# Altium footprint library b3f-4050.PcbLib: 1 footprints
Each footprint in its own frame and in the unit in brackets; x right, y up, seen from the top. Pads: shape width x height; smd on the part's side, far side on the other; paste and mask are expansions set on the pad; w line width, h text height; cw(c..) or ccw(c..) is an arc to the next point about the centre after c.
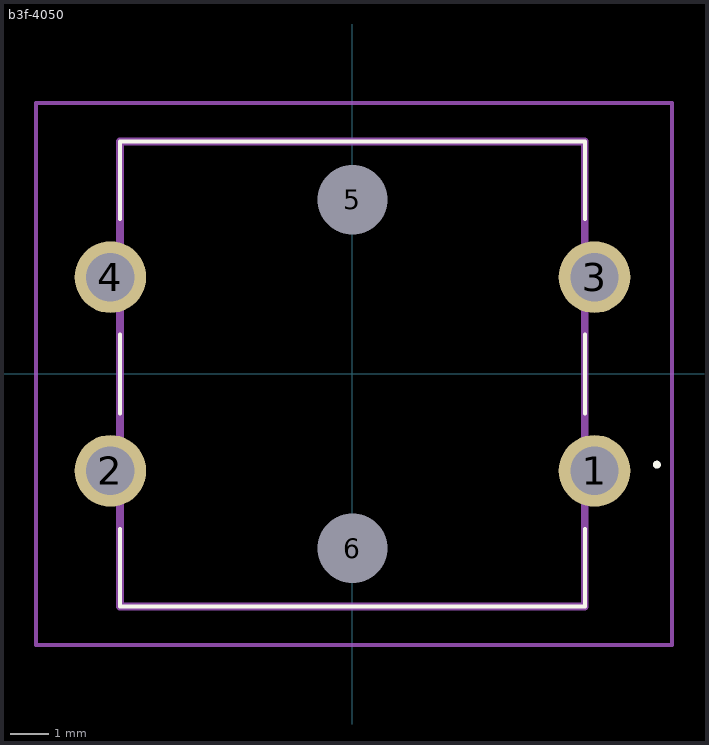
[diagram p0: the footprint, top view; thin cyan lines are the x and y axes]

## b3f-4050 [mm]
pads (6):
  round 1.85 hole 1.25: 1(6.25,-2.502) 2(-6.25,-2.502) 3(6.25,2.498) 4(-6.25,2.498)
  round 0.9 hole 1.8 unplated: 5(0,4.498) 6(0,-4.502)
Top Overlay:
  lines w0.1: -6,-4.002 -6,-6.002 6,-6.002 6,-4.002 ; -6,-1.027 -6,1.023 ; -6,3.998 -6,5.998 6,5.998 6,3.998 ; 6,-1.027 6,1.023 ; 7.81,-2.342 cw(c7.861,-2.342) 7.912,-2.342 cw(c7.861,-2.342) 7.81,-2.342
Mechanical 13:
  lines w0.2: -6,-6.002 -6,5.998 6,5.998 6,-6.002 -6,-6.002
Mechanical 15:
  lines w0.1: -8.175,-7.002 -8.175,6.998 8.255,6.998 8.255,-7.002 -8.175,-7.002
3D body "Omron 12x12 button.stp": height 10.81, standoff -4.34, extent -6.352,-5.998 6.248,6.002